# Altium schematic symbol library Res_Yageo_RT0603BRE078KL_8K.SchLib: 1 symbol
Pins are listed as number, name and electrical type; pins without a type are passive.

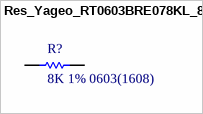
[diagram p0: symbol Res_Yageo_RT0603BRE078KL_8K]

## Res_Yageo_RT0603BRE078KL_8K
designator R?, comment 8K 1% 0603(1608)
8K 0.1W 1% 0603 (1608 Metric)  SMD; Supplier 1: Mouser; Supplier Part Number 1: 603-RT0603BRE078KL
footprint Res_Yageo_RT0603BRE078KL_8K
pins: 1, 2